# Altium footprint library ID Innovations.PCBLIB: 1 footprints
Each footprint in its own frame and in the unit in brackets; x right, y up, seen from the top. Pads: shape width x height; smd on the part's side, far side on the other; paste and mask are expansions set on the pad; w line width, h text height; cw(c..) or ccw(c..) is an arc to the next point about the centre after c.
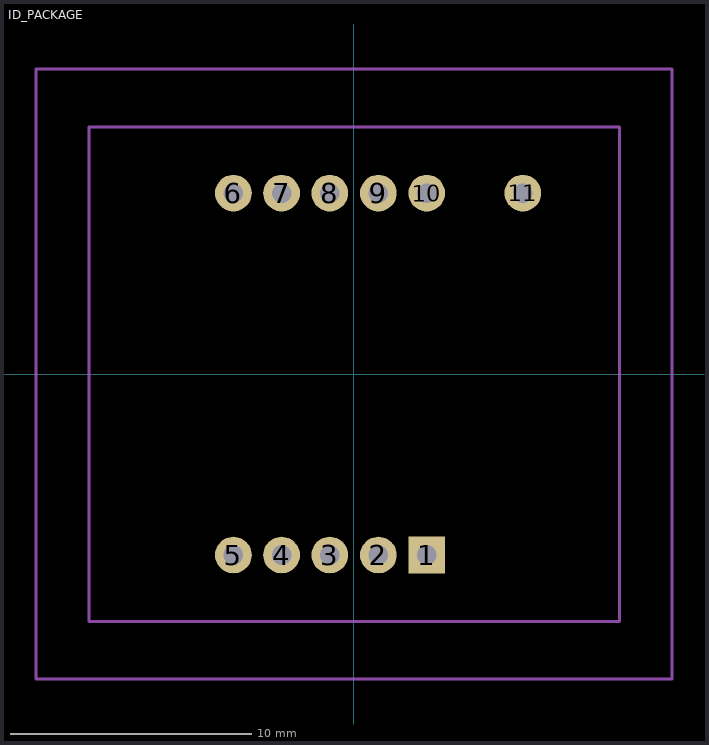
[diagram p0: the footprint, top view; thin cyan lines are the x and y axes]

## ID_PACKAGE [mil]
pads (11):
  rect 60x60 hole 32: 1(119,-295.28)
  round 60 hole 32: 2(40,-295.28) 3(-39.37,-295.28) 4(-118.11,-295.28) 5(-196.85,-295.28) 6(-196.85,296) 7(-118.11,296) 8(-39.37,296) 9(40,296) 10(119,296) 11(276,296)
Mechanical 16:
  lines w5: -519.68,-498.03 520,-498.03 520,499 -519.68,499 -519.68,-498.03 ; -433.07,-403.54 434,-403.54 434,404 -433.07,404 -433.07,-403.54
  text "ID-2LA" at 265,-395 h46.5
  text "ID-12LA" at 323,-488.19 h46.5